# Altium schematic symbol library Inductors.SchLib: 6 symbols
Pins are listed as number, name and electrical type; pins without a type are passive.

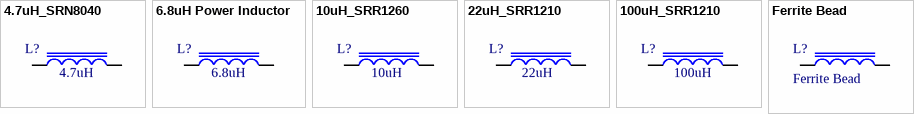
[diagram p0: symbols 4.7uH_SRN8040 to Ferrite Bead]

## 4.7uH_SRN8040
designator L?, comment 4.7uH
MFG: Bourns; MFG_PN: SRN8040-4R7Y; Value: 4.7uH
footprint Bourns_SRN8040
pins: 1, 2

## 6.8uH Power Inductor
designator L?, comment 6.8uH
6.8uH Shielded Power Inductor; MFG: SUMIDA; MFG_PN: CDRH3D28NP-6R8NC; CURRENT: 1.32A; SHIELDED: TRUE; LOAD: NL; RESISTANCE: 119m; Value: 6.8uH
footprint CDRH3D28NP-6R8NC
pins: 1, 2

## 10uH_SRR1260
designator L?, comment 10uH
MFG: Bourns; MFG_PN: SRR1260-100M; Value: 10uH
footprint SRR1260-100M
pins: 1, 2

## 22uH_SRR1210
designator L?, comment 22uH
MFG: Bourns; MFG_PN: SRR1210-220M; CURRENT: 5.2A; Value: 22uH
footprint Bourns_SRR1210 (SMD Inductor, 1210 package)
pins: 1, 2

## 100uH_SRR1210
designator L?, comment 100uH
MFG: Bourns; MFG_PN: SRR1210-220M; Value: 100uH
footprint Bourns_SRR1210 (SMD Inductor, 1210 package)
pins: 1, 2

## Ferrite Bead
designator L?
EMI Suppression/Ferrite Bead; MFG: VISHAY; MFG_PN: ILBB0603ER400V; Value: 40R; CURRENT: 400mA
footprint RES0603W (resistor 0603 wave soldering)
pins: 1, 2